# Altium footprint library SINGLE_DIODES.PcbLib: 2 footprints
Each footprint in its own frame and in the unit in brackets; x right, y up, seen from the top. Pads: shape width x height; smd on the part's side, far side on the other; paste and mask are expansions set on the pad; w line width, h text height; cw(c..) or ccw(c..) is an arc to the next point about the centre after c.
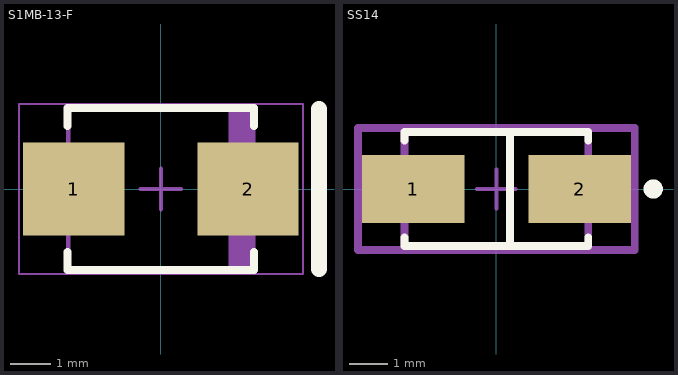
[diagram p0: the footprints below, top view; thin cyan lines are the x and y axes]

## S1MB-13-F [mm]
pads (2):
  rect 2.5x2.3 smd: 1(-2.15,0) 2(2.15,0)
Top Overlay:
  lines w0.2: -2.3,-1.55 -2.3,-2 2.3,-2 2.3,-1.55 ; -2.3,1.55 -2.3,2 2.3,2 2.3,1.55
  lines w0.4: 3.9,-1.97 3.9,1.97
Top Assembly:
  lines w0.05: -3.5,-2.1 -3.5,2.1 3.5,2.1 3.5,-2.1 -3.5,-2.1
Top Component Center:
  lines w0.1: -0.5,0 0.5,0 ; 0,-0.5 0,0.5
Top Component Outline:
  rectangle: 1.67,-1.97 2.285,1.97
  lines w0.1: -2.285,-1.97 2.285,-1.97 2.285,1.97 -2.285,1.97 -2.285,-1.97
Top Designator:
  text ".Designator" at -7.63,-0.521 h1.52
3D body "DIOM4336X25L.step": height 2.51, standoff 0.01, extent -2.505,-1.97 2.505,1.97

## SS14 [mm]
pads (2):
  rect 2.65x1.75 smd paste+0 mask+0: 1(-2.15,0) 2(2.15,0)
Top Overlay:
  circle w0.25: c4.05,0 r0.125
  lines w0.2: -2.375,-1.25 -2.375,-1.475 2.375,-1.475 2.375,-1.25 ; -2.375,1.25 -2.375,1.475 2.375,1.475 2.375,1.25 ; 0.35,-1.4 0.35,1.4
Top Assembly:
  lines w0.2: -3.575,-1.575 -3.575,1.575 3.575,1.575 3.575,-1.575 -3.575,-1.575
Top Component Center:
  lines w0.1: -0.5,0 0.5,0 ; 0,-0.5 0,0.5
Top Component Outline:
  lines w0.2: -2.375,-1.475 -2.375,1.475 2.375,1.475 2.375,-1.475 -2.375,-1.475
Top Courtyard:
  lines w0.2: -3.575,-1.575 3.575,-1.575 3.575,1.575 -3.575,1.575 -3.575,-1.575
Top Designator:
  text ".Designator" at -7.63,-0.521 h1.52
3D body "Diode_ON_Semiconductor_SS14_eec.STEP": height 0.25, standoff 0, extent -3.575,-1.575 3.575,1.575